# Altium footprint library I-PEX.PcbLib: 2 footprints
Each footprint in its own frame and in the unit in brackets; x right, y up, seen from the top. Pads: shape width x height; smd on the part's side, far side on the other; paste and mask are expansions set on the pad; w line width, h text height; cw(c..) or ccw(c..) is an arc to the next point about the centre after c.
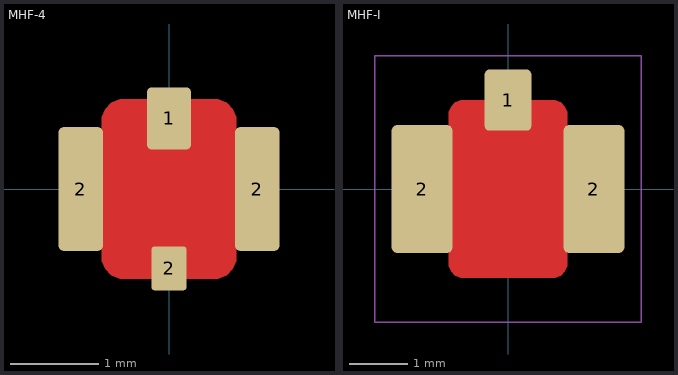
[diagram p0: the footprints below, top view; thin cyan lines are the x and y axes]

## MHF-4 [mm]
pads (4):
  rrect20% 0.5x0.7 smd paste-0.051 mask+0.038: 1(0,0.8)
  rrect20% 0.5x1.4 smd paste-1.27 mask+0.038: 2(-1,0) 2(1,0)
  rrect20% 0.4x0.5 smd paste-0.051 mask+0.038: 2(0,-0.9)
Top Layer:
  pour cut-out: -0.508,1.016 -0.559,1.016 -0.652,0.977 -0.723,0.906 -0.762,0.813 -0.762,0.762 -0.762,-0.762 -0.762,-0.813 -0.723,-0.906 -0.652,-0.977 -0.559,-1.016 -0.508,-1.016 0.508,-1.016 0.559,-1.016 0.652,-0.977 0.723,-0.906 0.762,-0.813 0.762,-0.762 0.762,0.762 0.762,0.813 0.723,0.906 0.652,0.977 0.559,1.016 0.508,1.016
Top Paste:
  rectangle: -1.245,-0.457 -0.762,0.457
  region: 1.245,0.457 0.762,0.457 0.762,-0.457 1.245,-0.457
Top Solder:
  rectangle: -0.889,-0.737 0.889,0.737
3D body "20449-001EC RECEPTACLE STEP R5 ALL.STEP": height 0.6, standoff 0, extent -1,-1 1,1

## MHF-I [mm]
pads (3):
  rrect20% 0.8x1.05 smd mask+0.038: 1(0,1.525)
  rrect20% 1.05x2.2 smd mask+0.038: 2(-1.475,0) 2(1.475,0)
Top Layer:
  pour cut-out: 0,1.525 0,1.524 -0.762,1.524 -0.813,1.524 -0.906,1.485 -0.977,1.414 -1.016,1.321 -1.016,1.27 -1.016,-1.27 -1.016,-1.321 -0.977,-1.414 -0.906,-1.485 -0.813,-1.524 -0.762,-1.524 0.762,-1.524 0.813,-1.524 0.906,-1.485 0.977,-1.414 1.016,-1.321 1.016,-1.27 1.016,1.27 1.016,1.321 0.977,1.414 0.906,1.485 0.813,1.524 0.762,1.524
Top Solder:
  rectangle: -1.067,-1.118 1.067,1.118
Top Courtyard:
  lines w0.025: -2.286,-2.286 2.286,-2.286 2.286,2.286 -2.286,2.286 -2.286,-2.286
3D body "20279-001E-01C RECEPTACLE R9 STEP ALL.STEP": height 1.25, standoff 0, extent -1.5,-1.55 1.5,1.55